# Altium schematic symbol library Schlib_ABC_Taiwan_Electronics.SchLib: 32 symbols
Pins are listed as number, name and electrical type; pins without a type are passive.

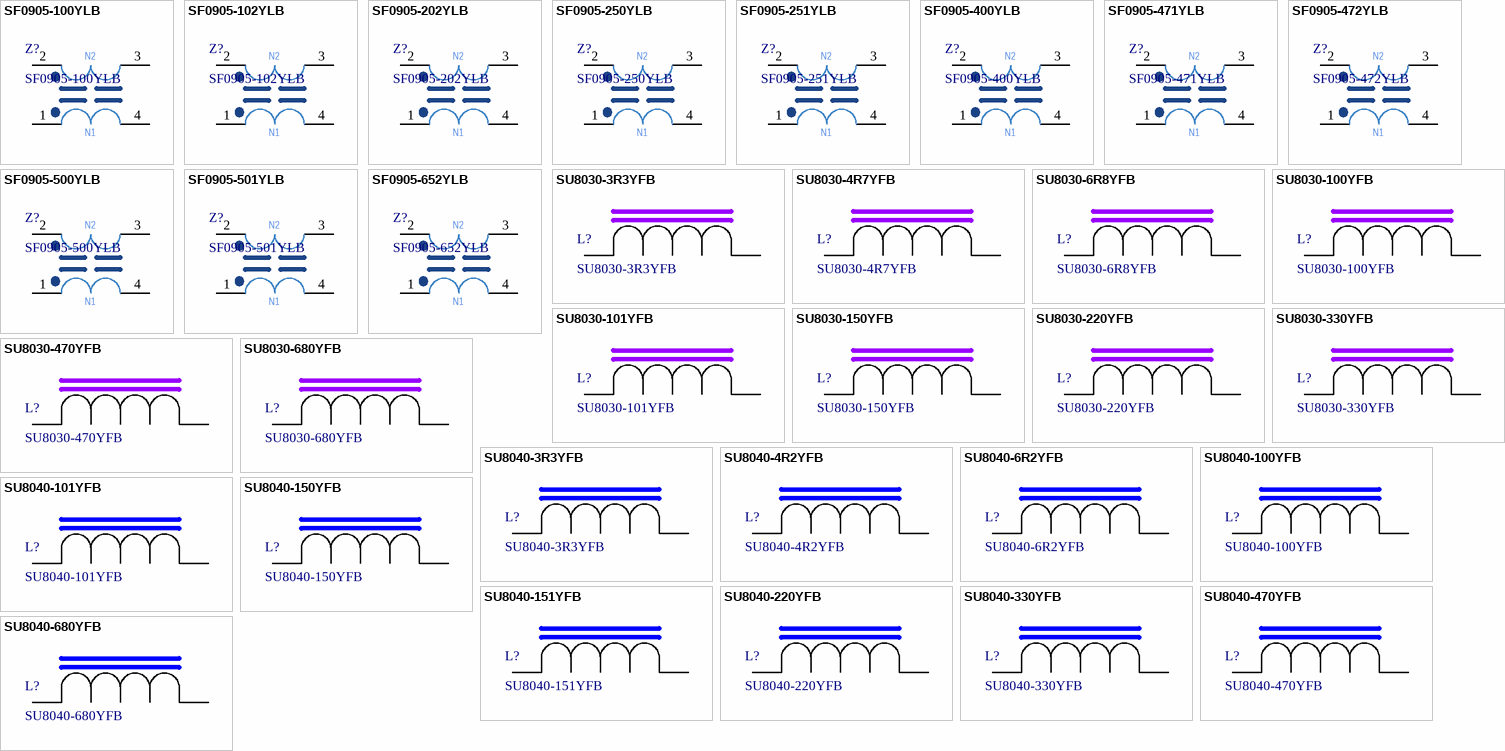
[diagram p0: symbols SF0905-100YLB to SU8040-680YFB]

## SF0905-100YLB
designator Z?
Shielded SMD Line Filter; Manufacturer: ABC Taiwan Electronics; RDC: 0.08 Ohm; Impedance: 200 Ohm (20-300 MHz); Voltage: 50V; Inductance @ 100 kHz: 10 µH; Current: 1.6 A; Part Number: SF0905-100YLB
footprint SF0905
pins: 1 IN-, 2 OUT-, 3 OUT+, 4 IN+
text: N2; N1

## SF0905-102YLB
designator Z?
Shielded SMD Line Filter; Manufacturer: ABC Taiwan Electronics; RDC: 0.31 Ohm; Impedance: 1500 Ohm (1-15 MHz); Voltage: 50V; Inductance @ 100 kHz: 1000 µH; Current: 0.8 A; Part Number: SF0905-102YLB
footprint SF0905
pins: 1 IN-, 2 OUT-, 3 OUT+, 4 IN+
text: N2; N1

## SF0905-202YLB
designator Z?
Shielded SMD Line Filter; Manufacturer: ABC Taiwan Electronics; RDC: 0.42 Ohm; Impedance: 3000 Ohm (1-5 MHz); Voltage: 50V; Inductance @ 100 kHz: 2000 µH; Current: 0.6 A; Part Number: SF0905-202YLB
footprint SF0905
pins: 1 IN-, 2 OUT-, 3 OUT+, 4 IN+
text: N2; N1

## SF0905-250YLB
designator Z?
Shielded SMD Line Filter; Manufacturer: ABC Taiwan Electronics; RDC: 0.16 Ohm; Impedance: 600 Ohm (20-150 MHz); Voltage: 50V; Inductance @ 100 kHz: 25 µH; Current: 1.0 A; Part Number: SF0905-250YLB
footprint SF0905
pins: 1 IN-, 2 OUT-, 3 OUT+, 4 IN+
text: N2; N1

## SF0905-251YLB
designator Z?
Shielded SMD Line Filter; Manufacturer: ABC Taiwan Electronics; RDC: 0.13 Ohm; Impedance: 600 Ohm (3-20 MHz); Voltage: 50V; Inductance @ 100 kHz: 250 µH; Current: 1.2 A; Part Number: SF0905-251YLB
footprint SF0905
pins: 1 IN-, 2 OUT-, 3 OUT+, 4 IN+
text: N2; N1

## SF0905-400YLB
designator Z?
Shielded SMD Line Filter; Manufacturer: ABC Taiwan Electronics; RDC: 0.25 Ohm; Impedance: 800 Ohm (20-100 MHz); Voltage: 50V; Inductance @ 100 kHz: 40 µH; Current: 0.9 A; Part Number: SF0905-400YLB
footprint SF0905
pins: 1 IN-, 2 OUT-, 3 OUT+, 4 IN+
text: N2; N1

## SF0905-471YLB
designator Z?
Shielded SMD Line Filter; Manufacturer: ABC Taiwan Electronics; RDC: 0.14 Ohm; Impedance: 1000 Ohm (2-20 MHz); Voltage: 50V; Inductance @ 100 kHz: 250 µH; Current: 1.1 A; Part Number: SF0905-471YLB
footprint SF0905
pins: 1 IN-, 2 OUT-, 3 OUT+, 4 IN+
text: N2; N1

## SF0905-472YLB
designator Z?
Shielded SMD Line Filter; Manufacturer: ABC Taiwan Electronics; RDC: 0.9 Ohm; Impedance: 4000 Ohm (0.3-3 MHz); Voltage: 50V; Inductance @ 100 kHz: 4700 µH; Current: 0.4 A; Part Number: SF0905-472YLB
footprint SF0905
pins: 1 IN-, 2 OUT-, 3 OUT+, 4 IN+
text: N2; N1

## SF0905-500YLB
designator Z?
Shielded SMD Line Filter; Manufacturer: ABC Taiwan Electronics; RDC: 0.32 Ohm; Impedance: 1500 Ohm (20-100 MHz); Voltage: 50V; Inductance @ 100 kHz: 50 µH; Current: 0.8 A; Part Number: SF0905-500YLB
footprint SF0905
pins: 1 IN-, 2 OUT-, 3 OUT+, 4 IN+
text: N2; N1

## SF0905-501YLB
designator Z?
Shielded SMD Line Filter; Manufacturer: ABC Taiwan Electronics; RDC: 0.15 Ohm; Impedance: 1000 Ohm (1-20 MHz); Voltage: 50V; Inductance @ 100 kHz: 500 µH; Current: 1.0 A; Part Number: SF0905-501YLB
footprint SF0905
pins: 1 IN-, 2 OUT-, 3 OUT+, 4 IN+
text: N2; N1

## SF0905-652YLB
designator Z?
Shielded SMD Line Filter; Manufacturer: ABC Taiwan Electronics; RDC: 1.05 Ohm; Impedance: 5000 Ohm (0.3-2 MHz); Voltage: 50V; Inductance @ 100 kHz: 6500 µH; Current: 0.3 A; Part Number: SF0905-652YLB
footprint SF0905
pins: 1 IN-, 2 OUT-, 3 OUT+, 4 IN+
text: N2; N1

## SU8030-3R3YFB
designator L?
Shielded SMD Power Inductors; Manufacturer: ABC Taiwan Electronics; RDC: 22 mOhm; SRF Min: 55 MHz; Q: 12; Irms  Max: 5 A; Isat  Typ: 4.6 A; Inductance @ 100 kHz: 3.3 µH; Part Number: SU8030-3R3YFB; Package: 8x8mm
footprint SU8030
pins: 1, 2

## SU8030-4R7YFB
designator L?
Shielded SMD Power Inductors; Manufacturer: ABC Taiwan Electronics; RDC: 30 mOhm; SRF Min: 42 MHz; Q: 10; Irms  Max: 4.6 A; Isat  Typ: 3.8 A; Inductance @ 100 kHz: 4.7 µH; Part Number: SU8030-4R7YFB; Package: 8x8mm
footprint SU8030
pins: 1, 2

## SU8030-6R8YFB
designator L?
Shielded SMD Power Inductors; Manufacturer: ABC Taiwan Electronics; RDC: 46 mOhm; SRF Min: 30 MHz; Q: 10; Irms  Max: 3.6 A; Isat  Typ: 3.2 A; Inductance @ 100 kHz: 6.8 µH; Part Number: SU8030-6R8YFB; Package: 8x8mm
footprint SU8030
pins: 1, 2

## SU8030-100YFB
designator L?
Shielded SMD Power Inductors; Manufacturer: ABC Taiwan Electronics; RDC: 60 mOhm; SRF Min: 25 MHz; Q: 18; Irms  Max: 3 A; Isat  Typ: 2.6 A; Inductance @ 100 kHz: 10 µH; Part Number: SU8030-100YFB; Package: 8x8mm
footprint SU8030
pins: 1, 2

## SU8030-101YFB
designator L?
Shielded SMD Power Inductors; Manufacturer: ABC Taiwan Electronics; RDC: 520 mOhm; SRF Min: 7 MHz; Q: 24; Irms  Max: 0.85 A; Isat  Typ: 0.75 A; Inductance @ 100 kHz: 68 µH; Part Number: SU8030-101YFB; Package: 8x8mm
footprint SU8030
pins: 1, 2

## SU8030-150YFB
designator L?
Shielded SMD Power Inductors; Manufacturer: ABC Taiwan Electronics; RDC: 100 mOhm; SRF Min: 20 MHz; Q: 18; Irms  Max: 2.2 A; Isat  Typ: 2 A; Inductance @ 100 kHz: 15 µH; Part Number: SU8030-150YFB; Package: 8x8mm
footprint SU8030
pins: 1, 2

## SU8030-220YFB
designator L?
Shielded SMD Power Inductors; Manufacturer: ABC Taiwan Electronics; RDC: 130 mOhm; SRF Min: 16 MHz; Q: 18; Irms  Max: 2 A; Isat  Typ: 1.75 A; Inductance @ 100 kHz: 22 µH; Part Number: SU8030-220YFB; Package: 8x8mm
footprint SU8030
pins: 1, 2

## SU8030-330YFB
designator L?
Shielded SMD Power Inductors; Manufacturer: ABC Taiwan Electronics; RDC: 180 mOhm; SRF Min: 14 MHz; Q: 16; Irms  Max: 1.6 A; Isat  Typ: 1.45 A; Inductance @ 100 kHz: 33 µH; Part Number: SU8030-330YFB; Package: 8x8mm
footprint SU8030
pins: 1, 2

## SU8030-470YFB
designator L?
Shielded SMD Power Inductors; Manufacturer: ABC Taiwan Electronics; RDC: 260 mOhm; SRF Min: 12 MHz; Q: 16; Irms  Max: 1.45 A; Isat  Typ: 1.25 A; Inductance @ 100 kHz: 47 µH; Part Number: SU8030-470YFB; Package: 8x8mm
footprint SU8030
pins: 1, 2

## SU8030-680YFB
designator L?
Shielded SMD Power Inductors; Manufacturer: ABC Taiwan Electronics; RDC: 315 mOhm; SRF Min: 9 MHz; Q: 16; Irms  Max: 1.25 A; Isat  Typ: 0.96 A; Inductance @ 100 kHz: 68 µH; Part Number: SU8030-680YFB; Package: 8x8mm
footprint SU8030
pins: 1, 2

## SU8040-3R3YFB
designator L?
Shielded SMD Power Inductors; Manufacturer: ABC Taiwan Electronics; RDC: 18 mOhm; SRF Min: 40 MHz; Q: 12; Irms  Max: 6 A; Isat  Typ: 5 A; Inductance @ 100 kHz: 3.3 µH; Part Number: SU8040-3R3YFB; Package: 8x8mm
footprint SU8040
pins: 1, 2

## SU8040-4R2YFB
designator L?
Shielded SMD Power Inductors; Manufacturer: ABC Taiwan Electronics; RDC: 22 mOhm; SRF Min: 32 MHz; Q: 12; Irms  Max: 5.3 A; Isat  Typ: 4.6 A; Inductance @ 100 kHz: 4.2 µH; Part Number: SU8040-4R2YFB; Package: 8x8mm
footprint SU8040
pins: 1, 2

## SU8040-6R2YFB
designator L?
Shielded SMD Power Inductors; Manufacturer: ABC Taiwan Electronics; RDC: 32 mOhm; SRF Min: 28 MHz; Q: 10; Irms  Max: 4.2 A; Isat  Typ: 4 A; Inductance @ 100 kHz: 6.2 µH; Part Number: SU8040-6R2YFB; Package: 8x8mm
footprint SU8040
pins: 1, 2

## SU8040-100YFB
designator L?
Shielded SMD Power Inductors; Manufacturer: ABC Taiwan Electronics; RDC: 42 mOhm; SRF Min: 20 MHz; Q: 22; Irms  Max: 3.7 A; Isat  Typ: 2.9 A; Inductance @ 100 kHz: 10 µH; Part Number: SU8040-100YFB; Package: 8x8mm
footprint SU8040
pins: 1, 2

## SU8040-101YFB
designator L?
Shielded SMD Power Inductors; Manufacturer: ABC Taiwan Electronics; RDC: 410 mOhm; SRF Min: 6 MHz; Q: 25; Irms  Max: 0.92 A; Isat  Typ: 1.05 A; Inductance @ 100 kHz: 100 µH; Part Number: SU8040-101YFB; Package: 8x8mm
footprint SU8040
pins: 1, 2

## SU8040-150YFB
designator L?
Shielded SMD Power Inductors; Manufacturer: ABC Taiwan Electronics; RDC: 70 mOhm; SRF Min: 18 MHz; Q: 20; Irms  Max: 2.8 A; Isat  Typ: 2.5 A; Inductance @ 100 kHz: 15 µH; Part Number: SU8040-150YFB; Package: 8x8mm
footprint SU8040
pins: 1, 2

## SU8040-151YFB
designator L?
Shielded SMD Power Inductors; Manufacturer: ABC Taiwan Electronics; RDC: 560 mOhm; SRF Min: 5 MHz; Q: 18; Irms  Max: 0.77 A; Isat  Typ: 0.9 A; Inductance @ 100 kHz: 150 µH; Part Number: SU8040-151YFB; Package: 8x8mm
footprint SU8040
pins: 1, 2

## SU8040-220YFB
designator L?
Shielded SMD Power Inductors; Manufacturer: ABC Taiwan Electronics; RDC: 110 mOhm; SRF Min: 15 MHz; Q: 22; Irms  Max: 2.2 A; Isat  Typ: 2.05 A; Inductance @ 100 kHz: 22 µH; Part Number: SU8040-220YFB; Package: 8x8mm
footprint SU8040
pins: 1, 2

## SU8040-330YFB
designator L?
Shielded SMD Power Inductors; Manufacturer: ABC Taiwan Electronics; RDC: 150 mOhm; SRF Min: 12 MHz; Q: 22; Irms  Max: 1.9 A; Isat  Typ: 1.75 A; Inductance @ 100 kHz: 33 µH; Part Number: SU8040-330YFB; Package: 8x8mm
footprint SU8040
pins: 1, 2

## SU8040-470YFB
designator L?
Shielded SMD Power Inductors; Manufacturer: ABC Taiwan Electronics; RDC: 190 mOhm; SRF Min: 10 MHz; Q: 20; Irms  Max: 1.55 A; Isat  Typ: 1.45 A; Inductance @ 100 kHz: 47 µH; Part Number: SU8040-470YFB; Package: 8x8mm
footprint SU8040
pins: 1, 2

## SU8040-680YFB
designator L?
Shielded SMD Power Inductors; Manufacturer: ABC Taiwan Electronics; RDC: 260 mOhm; SRF Min: 8 MHz; Q: 18; Irms  Max: 1.1 A; Isat  Typ: 1.35 A; Inductance @ 100 kHz: 68 µH; Part Number: SU8040-680YFB; Package: 8x8mm
footprint SU8040
pins: 1, 2